# Altium footprint library SOP65P640X110-21N.PcbLib: 1 footprints
Each footprint in its own frame and in the unit in brackets; x right, y up, seen from the top. Pads: shape width x height; smd on the part's side, far side on the other; paste and mask are expansions set on the pad; w line width, h text height; cw(c..) or ccw(c..) is an arc to the next point about the centre after c.
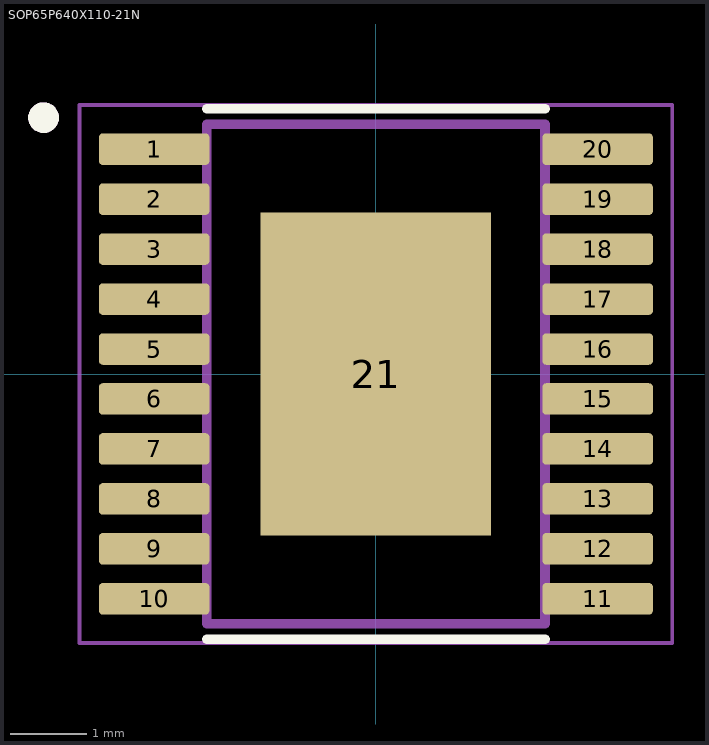
[diagram p0: the footprint, top view; thin cyan lines are the x and y axes]

## SOP65P640X110-21N [mm]
height 1.1
pads (21):
  rrect25% 1.44x0.41 smd: 1(-2.885,2.925) 2(-2.885,2.275) 3(-2.885,1.625) 4(-2.885,0.975) 5(-2.885,0.325) 6(-2.885,-0.325) 7(-2.885,-0.975) 8(-2.885,-1.625) 9(-2.885,-2.275) 10(-2.885,-2.925) 11(2.885,-2.925) 12(2.885,-2.275) 13(2.885,-1.625) 14(2.885,-0.975) 15(2.885,-0.325) 16(2.885,0.325) 17(2.885,0.975) 18(2.885,1.625) 19(2.885,2.275) 20(2.885,2.925)
  rect 3x4.2 smd paste-3: 21(0,0)
Top Overlay:
  circle w0.2: c-4.325,3.335 r0.1
  lines w0.127: -2.2,-3.45 2.2,-3.45 ; -2.2,3.45 2.2,3.45
Top Paste:
  region: 0.75,-1.05 -0.75,-1.05 -0.75,1.05 0.75,1.05
Mechanical 13:
  circle w0.2: c-4.325,3.335 r0.1
  lines w0.127: -2.2,-3.25 2.2,-3.25 2.2,3.25 -2.2,3.25 -2.2,-3.25
Mechanical 15:
  lines w0.05: -3.855,-3.5 3.855,-3.5 3.855,3.5 -3.855,3.5 -3.855,-3.5
3D body "step_temp.STEP": height 1.1, standoff 0, extent -3.2,-3.25 3.2,3.25